# Altium footprint library BMP388.PcbLib: 1 footprints
Each footprint in its own frame and in the unit in brackets; x right, y up, seen from the top. Pads: shape width x height; smd on the part's side, far side on the other; paste and mask are expansions set on the pad; w line width, h text height; cw(c..) or ccw(c..) is an arc to the next point about the centre after c.
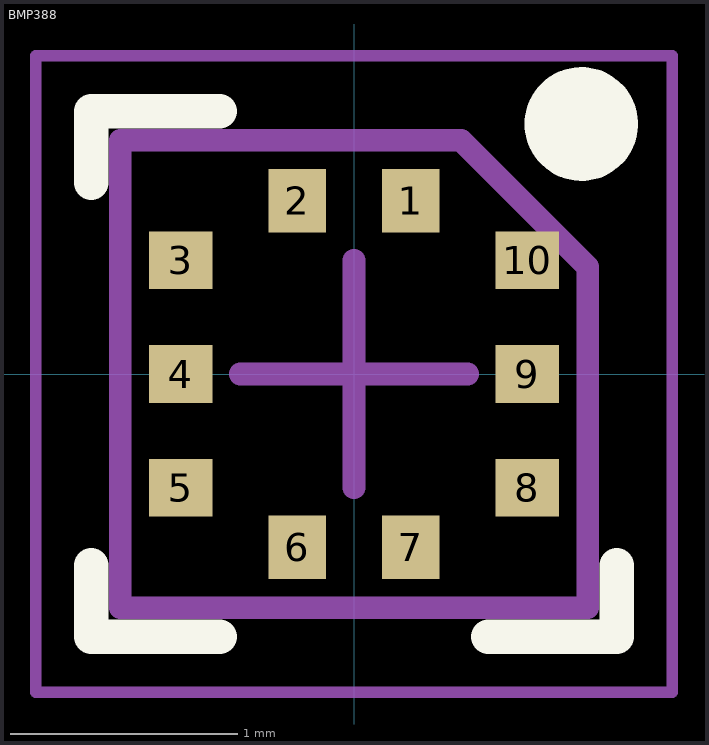
[diagram p0: the footprint, top view; thin cyan lines are the x and y axes]

## BMP388 [mil]
pads (10):
  rect 10x11 smd paste+0 mask+0: 1(9.84,30) 2(-9.84,30) 6(-9.84,-30) 7(9.84,-30)
  rect 11x10 smd paste+0 mask+0: 3(-30,19.68) 4(-30,0) 5(-30,-19.68) 8(30,-19.68) 9(30,0) 10(30,19.68)
Top Overlay:
  circle w9.84: c39.37,43.31 r4.92
  lines w6: -45.5,-33.15 -45.5,-45.5 -23.3,-45.5 ; -45.5,33.15 -45.5,45.5 -23.3,45.5 ; 23.3,-45.5 45.5,-45.5 45.5,-33.15
Mechanical 1:
  lines w3.94: -40.5,-40.5 -40.5,40.5 18.56,40.5 40.5,18.56 40.5,-40.5 -40.5,-40.5
  text ".Designator" at -34.45,-16.08 h25.59
Mechanical 2:
  lines w1.97: -55.12,-55.12 -55.12,55.12 55.12,55.12 55.12,-55.12 -55.12,-55.12
  lines w3.94: -19.68,0 19.68,0 ; 0,-19.68 0,19.68
3D body "Bosch BMP388.step": height 30.51, standoff 0.98, extent -39.37,-39.37 39.37,39.37